# Altium schematic symbol library fdc638p.SchLib: 1 symbol
Pins are listed as number, name and electrical type; pins without a type are passive.

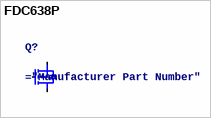
[diagram p0: symbol FDC638P]

## FDC638P
designator Q?
MOSFET P-CH 20V 4.5A SSOT-6
pins: 1, 2, 3, 4, 5, 6